# Altium footprint library ESP32_FOOT.PcbLib: 30 footprints (part 2 of 2)
Each footprint in its own frame and in the unit in brackets; x right, y up, seen from the top. Pads: shape width x height; smd on the part's side, far side on the other; paste and mask are expansions set on the pad; w line width, h text height; cw(c..) or ccw(c..) is an arc to the next point about the centre after c.
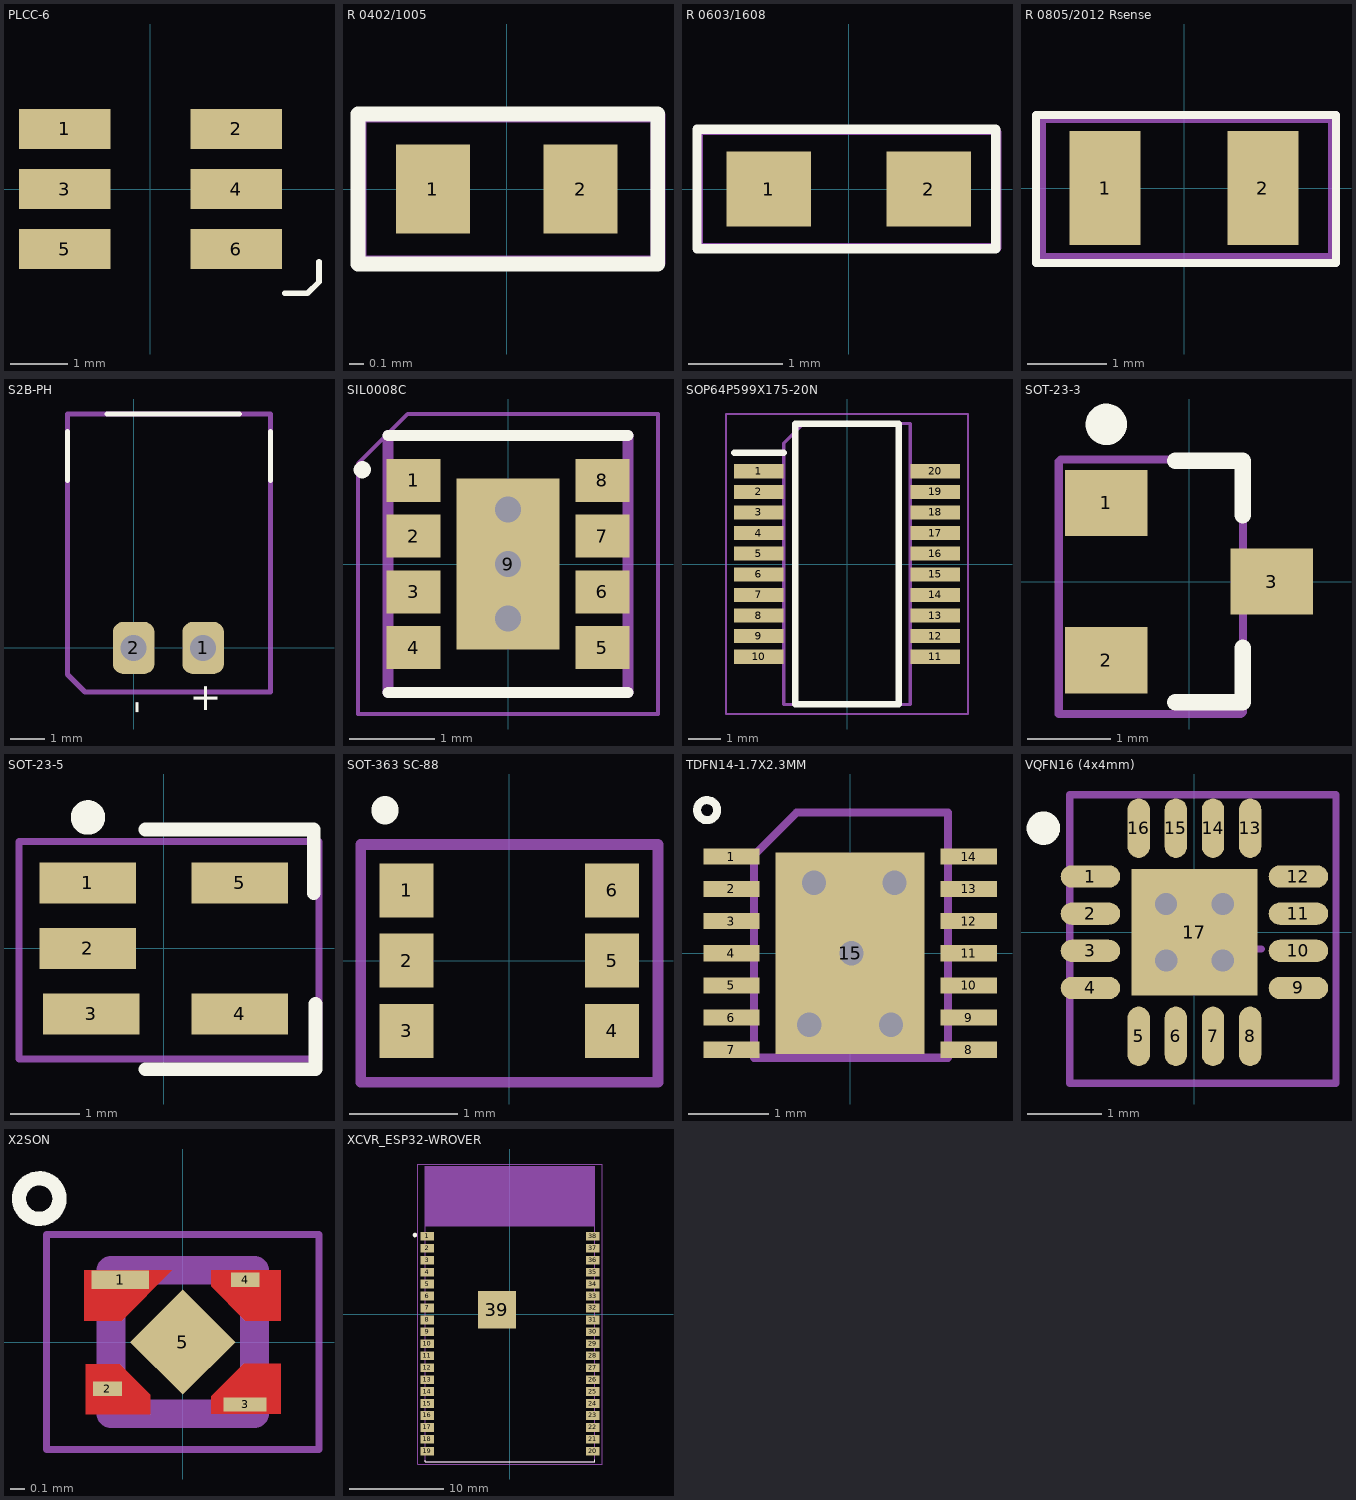
[diagram p1: the footprints below, top view; thin cyan lines are the x and y axes]

## PLCC-6 [mm] "PLCC-6"
pads (6):
  rect 1.6x0.7 smd: 1(-1.5,1.05) 2(1.5,1.05) 3(-1.5,0) 4(1.5,0) 5(-1.5,-1.05) 6(1.5,-1.05)
Top Overlay:
  lines w0.1: 2.35,-1.825 2.75,-1.825 2.95,-1.625 2.95,-1.275
3D body "User Library-LED_RGB_Osram_LRTB_G6SG.step": height 2.01, standoff 0, extent -1.825,-1.725 1.775,1.775

## R 0402/1005 [mm]
pads (2):
  rect 0.5x0.6 smd: 1(-0.5,0) 2(0.5,0)
Top Overlay:
  lines w0.1: -1.008,-0.508 -1.008,0.508 1.024,0.508 1.024,-0.508 -1.008,-0.508
Mechanical 29:
  lines w0.1: -1,-0.5 1.025,-0.5 1.025,0.5 -1,0.5 -1,-0.5
  text ".Designator" at -0.85,-0.3 h0.6
3D body: height 0.64, standoff 0, extent 0.525,-0.3 0.75,0.3
3D body: height 0.64, standoff 0, extent -0.75,-0.3 -0.5,0.3
3D body: height 0.64, standoff 0, extent -0.5,-0.3 0.525,0.3

## R 0603/1608 [mm]
pads (2):
  rect 0.9x0.8 smd: 1(-0.85,0) 2(0.85,0)
Top Overlay:
  lines w0.1: -1.612,-0.635 -1.612,0.635 1.563,0.635 1.563,-0.635 -1.612,-0.635
Mechanical 29:
  lines w0.1: -1.6,-0.625 -1.6,0.625 1.55,0.625 1.575,0.6 1.575,-0.625 -1.6,-0.625
  text ".Designator" at -1.425,-0.4 h0.8
3D body: height 0.64, standoff 0, extent -0.85,-0.4 0.85,0.4
3D body: height 0.64, standoff 0, extent -1.3,-0.4 -0.85,0.4
3D body: height 0.64, standoff 0, extent 0.85,-0.4 1.3,0.4

## R 0805/2012 Rsense [mm]
pads (2):
  rect 0.9x1.45 smd: 1(-1,0) 2(1,0)
Top Overlay:
  lines w0.1: -1.875,-0.95 -1.875,0.925 1.925,0.925 1.925,-0.95 -1.875,-0.95
Mechanical 29:
  lines w0.1: -1.8,-0.875 -1.8,0.85 -1.775,0.875 1.875,0.875 1.875,-0.875 -1.8,-0.875
  text ".Designator" at -1.65,-0.55 h1
3D body: height 0.64, standoff 0, extent 0.943,-0.6 1.343,0.6
3D body: height 0.64, standoff 0, extent -1.368,-0.6 -0.918,0.6
3D body: height 0.64, standoff 0, extent -0.918,-0.6 0.943,0.6

## S2B-PH [mm]
pads (2):
  rrect50% 1.2x1.5 hole 0.75: 1(2,0) 2(0,0)
Top Overlay:
  lines w0.15: -1.905,4.826 -1.905,6.223 ; -0.762,6.731 3.048,6.731 ; 3.937,4.826 3.937,6.223
  text "-" at 0.4,-1.9 h0.8
  text "+" at 2.425,-1.9 h0.8
Mechanical 29:
  lines w0.15: -1.905,-0.762 -1.905,6.731 3.937,6.731 3.937,-0.889 3.937,-1.27 -1.397,-1.27 -1.905,-0.762
3D body "HEADER (JST SxB-PH-K-S (RIGHT ANGLE)).step": height 4.9, standoff -1.9, extent -1.934,-0.838 3.966,6.762

## SIL0008C [mm]
pads (9):
  rect 0.63x0.5 smd: 1(-1.1,0.975) 2(-1.1,0.325) 3(-1.1,-0.325) 4(-1.1,-0.975) 5(1.1,-0.975) 6(1.1,-0.325) 7(1.1,0.325) 8(1.1,0.975)
  rect 1.2x2 smd: 9(0,0)
via 0,0.635 diameter 0.55 hole 0.3
via 0,-0.635 diameter 0.55 hole 0.3
via 0,0 diameter 0.55 hole 0.3
Top Overlay:
  circle w0.1: c-1.7,1.1 r0.05
  lines w0.127: -1.4,-1.5 1.4,-1.5 ; -1.4,1.5 1.4,1.5
Top Paste:
  region: -1.352,0.525 -0.85,0.525 -0.85,0.125 -1.352,0.125
  region: -1.353,-0.125 -0.85,-0.125 -0.85,-0.526 -1.353,-0.526
  region: -1.353,1.175 -0.85,1.175 -0.85,0.777 -1.353,0.777
  region: -1.353,-0.775 -0.85,-0.775 -0.85,-1.177 -1.353,-1.177
  region: 0.852,0.525 1.35,0.525 1.35,0.125 0.852,0.125
  region: 0.852,-0.125 1.35,-0.125 1.35,-0.526 0.852,-0.526
  region: 0.852,1.175 1.35,1.175 1.35,0.777 0.852,0.777
  region: 0.852,-0.775 1.35,-0.775 1.35,-1.177 0.852,-1.177
  region: -0.521,0.95 0.52,0.95 0.52,0.1 -0.521,0.1
  region: -0.521,-0.1 0.52,-0.1 0.52,-0.953 -0.521,-0.953
Top Solder:
  region: -1.353,0.525 -0.85,0.525 -0.85,0.125 -1.353,0.125
  region: -1.351,-0.125 -0.85,-0.125 -0.85,-0.525 -1.351,-0.525
  region: -1.352,1.175 -0.85,1.175 -0.85,0.776 -1.352,0.776
  region: -1.353,-0.775 -0.85,-0.775 -0.85,-1.178 -1.353,-1.178
  region: 0.852,0.525 1.35,0.525 1.35,0.125 0.852,0.125
  region: 0.853,-0.125 1.35,-0.125 1.35,-0.527 0.853,-0.527
  region: 0.853,1.175 1.35,1.175 1.35,0.778 0.853,0.778
  region: 0.852,-0.775 1.35,-0.775 1.35,-1.177 0.852,-1.177
  region: -0.551,0.95 0.55,0.95 0.55,-0.952 -0.551,-0.952
Mechanical 4:
  lines w0.127: -1.4,-1.5 1.4,-1.5 1.4,1.5 -1.4,1.5 -1.4,-1.5
Mechanical 29:
  lines w0.05: -1.75,-1.75 1.75,-1.75 1.75,1.75 -1.171,1.75 -1.75,1.171 -1.75,-1.75
  text ".Designator" at -1.143,-0.381 h0.8
3D body "TPS82084SILT.step": height 1.33, standoff 0, extent -1.4,-1.476 1.4,1.524

## SOP64P599X175-20N [mm]
pads (20):
  rect 1.526x0.435 smd: 1(-2.712,2.858) 2(-2.712,2.222) 3(-2.712,1.588) 4(-2.712,0.952) 5(-2.712,0.318) 6(-2.712,-0.318) 7(-2.712,-0.952) 8(-2.712,-1.588) 9(-2.712,-2.222) 10(-2.712,-2.858) 11(2.712,-2.858) 12(2.712,-2.222) 13(2.712,-1.588) 14(2.712,-0.952) 15(2.712,-0.318) 16(2.712,0.318) 17(2.712,0.952) 18(2.712,1.588) 19(2.712,2.222) 20(2.712,2.858)
Top Overlay:
  lines w0.2: -3.475,3.425 -1.95,3.425 ; -1.6,-4.324 -1.6,4.324 1.6,4.324 1.6,-4.324 -1.6,-4.324
Mechanical 20:
  lines w0.05: -3.725,-4.619 -3.725,4.619 3.725,4.619 3.725,-4.619 -3.725,-4.619
Mechanical 29:
  lines w0.1: -1.95,-4.324 1.95,-4.324 1.95,4.324 -1.346,4.324 -1.95,3.72 -1.95,-4.324
  text ".Designator" at 0.254,-3.429 h0.8
3D body "FT231XS-R.stp": height 1.75, standoff 0, extent -2.997,-4.324 2.997,4.325

## SOT-23-3 [mm] "SOT23, 3-Leads, Body 2.92x1.3mm, Pitch 0.95mm"
height 1.11
pads (3):
  rect 1x0.8 smd: 1(-1,0.95) 2(-1,-0.95) 3(1,0)
Top Overlay:
  circle w0.25: c-1,1.9 r0.125
  lines w0.2: -0.165,-1.46 0.65,-1.46 0.65,-0.8 ; -0.165,1.46 0.65,1.46 0.65,0.8
Mechanical 29:
  lines w0.1: -1.575,-1.6 0.625,-1.6 0.65,-1.575 0.65,1.475 -1.55,1.475 -1.575,1.45 -1.575,-1.6
  text ".Designator" at -0.8,1.125 h1
3D body "SOT23-3.step": height 1.3, standoff 0, extent -1.4,-1.45 1.4,1.45

## SOT-23-5 [mm] "SOT23, 3-Leads, Body 2.92x1.3mm, Pitch 0.95mm"
height 1.11
pads (5):
  rect 1.4x0.6 smd: 1(-1.1,0.95) 2(-1.1,0) 3(-1.05,-0.95) 4(1.1,-0.95) 5(1.1,0.95)
Top Overlay:
  circle w0.25: c-1.1,1.9 r0.125
  lines w0.2: -0.265,-1.75 2.2,-1.75 2.2,-0.8 ; -0.265,1.725 2.175,1.725 2.175,0.8
Mechanical 29:
  lines w0.1: -2.1,-1.6 -2.1,1.55 2.25,1.55 2.25,-1.6 -2.1,-1.6
  text ".Designator" at -0.9,1.125 h1
3D body "SOT-23-5.step": height 1.05, standoff -0.05, extent -1.175,-1.5 1.325,1.5

## SOT-363 SC-88 [mm] "SOT23, 3-Leads, Body 2.92x1.3mm, Pitch 0.95mm"
height 1.11
pads (6):
  rect 0.5x0.5 smd: 1(-0.95,0.65) 2(-0.95,0) 3(-0.95,-0.65) 4(0.95,-0.65) 5(0.95,0) 6(0.95,0.65)
Top Overlay:
  lines w0.25: -1.151,1.384 ccw(c-1.275,1.4) -1.15,1.4
Mechanical 29:
  lines w0.1: -1.375,-1.125 1.375,-1.125 1.375,1.075 -1.375,1.075 -1.375,-1.125
  text ".Designator" at -0.75,0.825 h1
3D body "SC88-6 sot363.step": height 1.1, standoff 0, extent -1.1,-1 1.1,1

## TDFN14-1.7X2.3MM [mm] "T1433+2C Maxim code"
height 1.1
pads (15):
  rect 0.7x0.2 smd: 1(-1.475,1.2) 2(-1.475,0.8) 3(-1.475,0.4) 4(-1.475,0) 5(-1.475,-0.4) 6(-1.475,-0.8) 7(-1.475,-1.2) 8(1.475,-1.2) 9(1.475,-0.8) 10(1.475,-0.4) 11(1.475,0) 12(1.475,0.4) 13(1.475,0.8) 14(1.475,1.2)
  rect 1.85x2.5 smd: 15(0,0)
via -0.45,0.875 diameter 0.5 hole 0.3
via 0.55,0.875 diameter 0.5 hole 0.3
via -0.508,-0.889 diameter 0.5 hole 0.3
via 0.508,-0.889 diameter 0.5 hole 0.3
via 0.015,0 diameter 0.5 hole 0.3
Top Overlay:
  circle w0.1: c-1.778,1.778 r0.125
Mechanical 29:
  lines w0.1: -1.195,-1.299 1.218,-1.299 1.218,1.749 -0.664,1.749 -1.195,1.218 -1.195,-1.299
  text ".Designator" at 0.329,-1.045 h1
3D body "MAXIM-TDFN-EP-14.step": height 0.73, standoff -0.03, extent -1.535,-1.5 1.475,1.5

## VQFN16 (4x4mm) [mm] "QFN, 16-Leads, Body 4,00x4,00mm,"
height 0.8
pads (17):
  oval 0.8x0.3 smd: 1(-1.4,0.75) 2(-1.4,0.25) 3(-1.4,-0.25) 4(-1.4,-0.75) 9(1.4,-0.75) 10(1.4,-0.25) 11(1.4,0.25) 12(1.4,0.75)
  oval 0.3x0.8 smd: 5(-0.75,-1.4) 6(-0.25,-1.4) 7(0.25,-1.4) 8(0.75,-1.4) 13(0.75,1.4) 14(0.25,1.4) 15(-0.25,1.4) 16(-0.75,1.4)
  rect 1.7x1.7 smd: 17(0,0)
via -0.384,0.381 diameter 0.5 hole 0.3
via 0.381,0.381 diameter 0.5 hole 0.3
via 0.381,-0.381 diameter 0.5 hole 0.3
via -0.381,-0.381 diameter 0.5 hole 0.3
Top Overlay:
  circle w0.25: c-2.032,1.4 r0.1
Mechanical 15:
  lines w0.1: -0.1,-0.225 0.9,-0.225 ; 0.4,-0.725 0.4,0.275
Mechanical 29:
  lines w0.1: -1.675,-2.032 1.905,-2.032 1.905,1.85 -1.675,1.85 -1.675,-2.032
  text ".Designator" at -1.124,-0.606 h1
3D body "BQ24076RGTT.stp": height 1, standoff 0, extent -1.55,-1.55 1.55,1.55

## X2SON [mm]
pads (5):
  rect 0.4x0.13 smd: 1(-0.435,0.435)
  rect 0.2x0.1 smd: 2(-0.525,-0.325) 4(0.435,0.435)
  rect 0.3x0.1 smd: 3(0.435,-0.435)
  rect 0.52x0.52 smd rot 135: 5(0,0)
Top Layer:
  region: -0.075,0.5 -0.685,0.5 -0.685,0.15 -0.425,0.15
  region: 0.198,-0.379 0.198,-0.5 0.685,-0.5 0.685,-0.375 0.685,-0.15 0.427,-0.15
  region: 0.2,0.388 0.2,0.5 0.685,0.5 0.685,0.375 0.685,0.15 0.438,0.15
  region: -0.225,-0.366 -0.225,-0.504 -0.675,-0.504 -0.675,-0.383 -0.675,-0.154 -0.437,-0.154
Top Overlay:
  circle w0.1: c-1,1 r0.141
Top Paste:
  region: -0.66,0.475 -0.12,0.475 -0.42,0.175 -0.66,0.175
  region: 0.66,-0.175 0.66,-0.475 0.21,-0.475 0.21,-0.385 0.42,-0.175
  region: 0.66,0.475 0.66,0.175 0.42,0.175 0.21,0.385 0.21,0.475
  region: 0,0.354 0.354,0 0,-0.354 -0.354,0
  lines w0: -0.66,0.475 -0.66,0.175 -0.42,0.175 ; -0.66,-0.475 -0.21,-0.475 -0.21,-0.385 -0.42,-0.175 -0.66,-0.175 -0.66,-0.475 ; 0.21,-0.475 0.21,-0.385 0.42,-0.175 0.66,-0.175 0.66,-0.475 0.21,-0.475
Top Solder:
  region: -0.66,0.475 -0.66,0.175 -0.41,0.175 -0.11,0.475
  region: 0,0.46 0.46,0 0,-0.46 -0.46,0
Mechanical 4:
  lines w0.2: -0.5,-0.5 -0.5,0.5 ; -0.5,-0.5 0.5,-0.5 ; -0.5,-0.5 -0.5,0.5 ; -0.5,-0.5 0.5,-0.5 ; -0.5,0.5 0.5,0.5 ; -0.5,0.5 0.5,0.5 ; 0.5,-0.5 0.5,0.5 ; 0.5,-0.5 0.5,0.5
Mechanical 29:
  lines w0.05: -0.95,-0.75 -0.95,0.75 0.95,0.75 0.95,-0.75 -0.95,-0.75
  text ".Designator" at -0.5,0 h0.8
3D body "on-XDFN4-711AJ.step": height 0.36, standoff -0.03, extent -0.5,-0.502 0.5,0.502

## XCVR_ESP32-WROVER [mm]
pads (39):
  rect 1.45x0.93 smd: 1(-8.81,8.26) 2(-8.81,6.99) 3(-8.81,5.72) 4(-8.81,4.45) 5(-8.81,3.18) 6(-8.81,1.91) 7(-8.81,0.64) 8(-8.81,-0.63) 9(-8.81,-1.9) 10(-8.81,-3.17) 11(-8.81,-4.44) 12(-8.81,-5.71) 13(-8.81,-6.98) 14(-8.81,-8.25) 15(-8.81,-9.52) 16(-8.81,-10.79) 17(-8.81,-12.06) 18(-8.81,-13.33) 19(-8.81,-14.6) 20(8.81,-14.6) 21(8.81,-13.33) 22(8.81,-12.06) 23(8.81,-10.79) 24(8.81,-9.52) 25(8.81,-8.25) 26(8.81,-6.98) 27(8.81,-5.71) 28(8.81,-4.44) 29(8.81,-3.17) 30(8.81,-1.9) 31(8.81,-0.63) 32(8.81,0.64) 33(8.81,1.91) 34(8.81,3.18) 35(8.81,4.45) 36(8.81,5.72) 37(8.81,6.99) 38(8.81,8.26)
  rect 4x4 smd: 39(-1.38,0.47)
Top Overlay:
  circle w0.24: c-10.1,8.4 r0.12
  lines w0.127: -9,-15.55 -9,-15.7 9,-15.7 9,-15.5
Top Paste:
  region: -2.648,1.735 -0.115,1.735 -0.115,-0.796 -2.648,-0.796
Mechanical 4:
  region: -9.029,15.7 9,15.7 9,9.33 -9.029,9.33
  region: -9.03,15.7 9,15.7 9,9.331 -9.03,9.331
  region: -9.023,15.7 9,15.7 9,9.324 -9.023,9.324
  region: -9.029,15.7 9,15.7 9,9.33 -9.029,9.33
  region: -9.03,15.7 9,15.7 9,9.331 -9.03,9.331
  region: -9.023,15.7 9,15.7 9,9.324 -9.023,9.324
  lines w0.127: -9,-15.7 -9,15.7 ; -9,-15.7 9,-15.7 ; -9,-15.7 -9,15.7 ; -9,-15.7 9,-15.7 ; -9,15.7 9,15.7 ; -9,15.7 9,15.7 ; 9,-15.7 9,15.7 ; 9,-15.7 9,15.7
Mechanical 29:
  lines w0.05: -9.8,-15.95 -9.8,15.95 9.8,15.95 9.8,-15.95 -9.8,-15.95
  lines w0.127: -9,8.95 -9,15.7 9,15.7 9,8.95
  text ".Designator" at -6,-10 h0.8
3D body "ESP32-WROVER-B (16MB).STEP": height 3.4, standoff 0, extent -9,-15.7 9,15.7